# Altium footprint library 0.1uF 25V cap cer TH.PcbLib: 3 footprints
Each footprint in its own frame and in the unit in brackets; x right, y up, seen from the top. Pads: shape width x height; smd on the part's side, far side on the other; paste and mask are expansions set on the pad; w line width, h text height; cw(c..) or ccw(c..) is an arc to the next point about the centre after c.
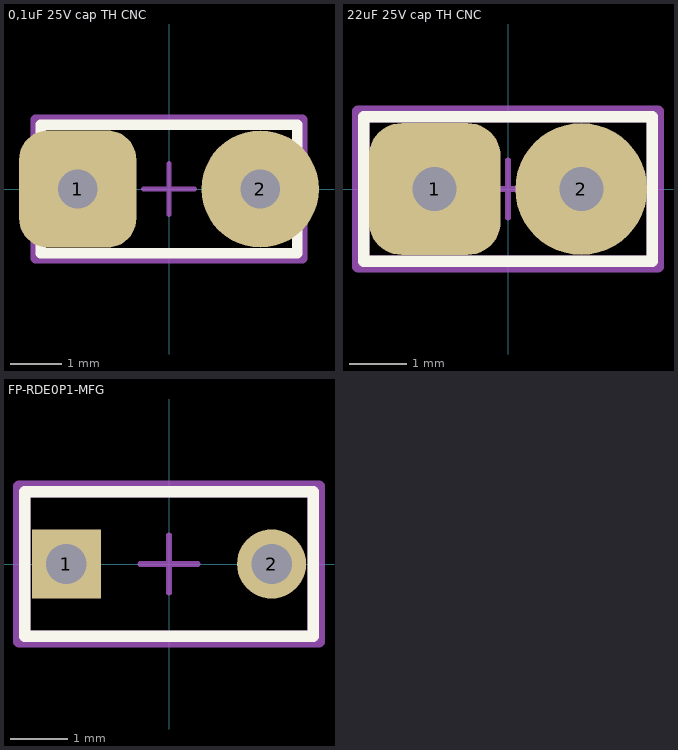
[diagram p0: the footprints below, top view; thin cyan lines are the x and y axes]

## 0,1uF 25V cap TH CNC [mil]
pads (2):
  rrect50% 90x90 hole 30 paste-99999 mask+0: 1(-70,0)
  round 90 hole 30 paste-99999 mask+0: 2(70,0)
Top Overlay:
  lines w7.87: -98.43,-49.21 -98.43,49.21 98.43,49.21 98.43,-49.21 -98.43,-49.21
Top Assembly:
  lines w7.87: -102.36,-53.15 -102.36,53.15 102.36,53.15 102.36,-53.15 -102.36,-53.15
  text ".Designator" at 0,-0.02 h39.37
Top 3D Body:
  lines w7.87: -98.43,-49.21 -98.43,49.21 98.43,49.21 98.43,-49.21 -98.43,-49.21
Top Courtyard:
  lines w7.87: -102.36,-53.15 -102.36,53.15 102.36,53.15 102.36,-53.15 -102.36,-53.15
Top Component Center:
  lines w3.94: -19.68,0 19.68,0 ; 0,-19.68 0,19.68
3D body "Cap_Murata_RDE5C1H471J0P1H03B_eec.STEP": height 10, standoff 0, extent -102.36,-53.15 102.36,53.15

## 22uF 25V cap TH CNC [mil]
pads (2):
  rrect50% 90x90 hole 30 paste-99999 mask+0: 1(-50,0)
  round 90 hole 30 paste-99999 mask+0: 2(50,0)
Top Overlay:
  lines w7.87: -98.43,-49.21 -98.43,49.21 98.43,49.21 98.43,-49.21 -98.43,-49.21
Top Assembly:
  lines w7.87: -102.36,-53.15 -102.36,53.15 102.36,53.15 102.36,-53.15 -102.36,-53.15
  text ".Designator" at 0,-0.02 h39.37
Top 3D Body:
  lines w7.87: -98.43,-49.21 -98.43,49.21 98.43,49.21 98.43,-49.21 -98.43,-49.21
Top Courtyard:
  lines w7.87: -102.36,-53.15 -102.36,53.15 102.36,53.15 102.36,-53.15 -102.36,-53.15
Top Component Center:
  lines w3.94: -19.68,0 19.68,0 ; 0,-19.68 0,19.68

## FP-RDE0P1-MFG [mm]
pads (2):
  rect 1.2x1.2 hole 0.7 paste-2539.97 mask+0: 1(-1.778,0)
  round 1.2 hole 0.7 paste-2539.97 mask+0: 2(1.778,0)
Top Overlay:
  lines w0.2: -2.5,-1.25 -2.5,1.25 2.5,1.25 2.5,-1.25 -2.5,-1.25
Top Assembly:
  lines w0.2: -2.6,-1.35 -2.6,1.35 2.6,1.35 2.6,-1.35 -2.6,-1.35
  text ".Designator" at 0,-0.001 h1
Top 3D Body:
  lines w0.2: -2.5,-1.25 -2.5,1.25 2.5,1.25 2.5,-1.25 -2.5,-1.25
Top Courtyard:
  lines w0.2: -2.6,-1.35 -2.6,1.35 2.6,1.35 2.6,-1.35 -2.6,-1.35
Top Component Center:
  lines w0.1: -0.5,0 0.5,0 ; 0,-0.5 0,0.5
3D body "Cap_Murata_RDE5C1H471J0P1H03B_eec.STEP": height 0.25, standoff 0, extent -2.6,-1.35 2.6,1.35